# Altium footprint library PCB - CAPACITOR - FILM - WIMA_P2750L3150W1100H2100.PCBLIB: 1 footprints
Each footprint in its own frame and in the unit in brackets; x right, y up, seen from the top. Pads: shape width x height; smd on the part's side, far side on the other; paste and mask are expansions set on the pad; w line width, h text height; cw(c..) or ccw(c..) is an arc to the next point about the centre after c.
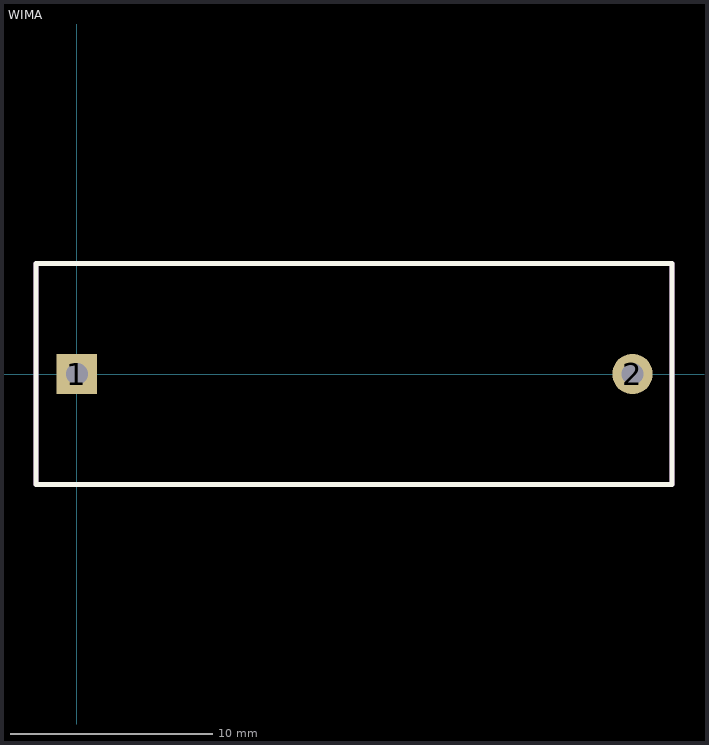
[diagram p0: the footprint, top view; thin cyan lines are the x and y axes]

## WIMA [mm]
pads (2):
  rect 2x2 hole 1.1: 1(0,0)
  round 2 hole 1.1: 2(27.5,0)
Top Overlay:
  lines w0.254: -2.032,-5.461 -2.032,5.461 6.731,5.461 29.464,5.461 29.464,-5.461 -2.032,-5.461
Top Assembly:
  lines w0.254: -2.032,-5.461 -2.032,5.461 6.731,5.461 29.464,5.461 29.464,-5.461 -2.032,-5.461
3D body "FILM_RED_P2750L3150W1100H2100PD80.step": height 21, standoff -6.2, extent -2.05,-5.5 29.45,5.5